# Altium schematic symbol library SCH - MCU - ATMEGA - MICROCHIP ATMEGA168PB-AN TQFP32.SchLib: 1 symbol
Pins are listed as number, name and electrical type; pins without a type are passive.

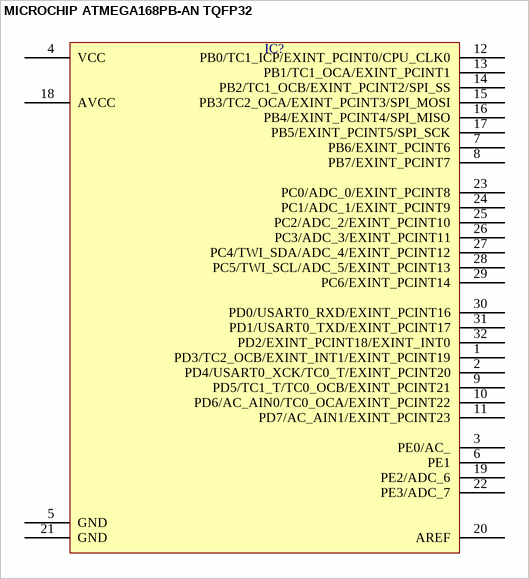
[diagram p0: symbol MICROCHIP ATMEGA168PB-AN TQFP32]

## MICROCHIP ATMEGA168PB-AN TQFP32
designator IC?  (value not drawn)
pins: 1 PD3/TC2_OCB/EXINT_INT1/EXINT_PCINT19, 2 PD4/USART0_XCK/TC0_T/EXINT_PCINT20, 3 PE0/AC_, 4 VCC, 5 GND, 6 PE1, 7 PB6/EXINT_PCINT6, 8 PB7/EXINT_PCINT7, 9 PD5/TC1_T/TC0_OCB/EXINT_PCINT21, 10 PD6/AC_AIN0/TC0_OCA/EXINT_PCINT22, 11 PD7/AC_AIN1/EXINT_PCINT23, 12 PB0/TC1_ICP/EXINT_PCINT0/CPU_CLK0, 13 PB1/TC1_OCA/EXINT_PCINT1, 14 PB2/TC1_OCB/EXINT_PCINT2/SPI_SS, 15 PB3/TC2_OCA/EXINT_PCINT3/SPI_MOSI, 16 PB4/EXINT_PCINT4/SPI_MISO, 17 PB5/EXINT_PCINT5/SPI_SCK, 18 AVCC, 19 PE2/ADC_6, 20 AREF, 21 GND, 22 PE3/ADC_7, 23 PC0/ADC_0/EXINT_PCINT8, 24 PC1/ADC_1/EXINT_PCINT9, 25 PC2/ADC_2/EXINT_PCINT10, 26 PC3/ADC_3/EXINT_PCINT11, 27 PC4/TWI_SDA/ADC_4/EXINT_PCINT12, 28 PC5/TWI_SCL/ADC_5/EXINT_PCINT13, 29 PC6/EXINT_PCINT14, 30 PD0/USART0_RXD/EXINT_PCINT16, 31 PD1/USART0_TXD/EXINT_PCINT17, 32 PD2/EXINT_PCINT18/EXINT_INT0